# Altium schematic symbol library SS54-HF.SchLib: 1 symbol
Pins are listed as number, name and electrical type; pins without a type are passive.

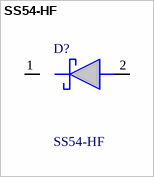
[diagram p0: symbol SS54-HF]

## SS54-HF
designator D?
DIODE SCHOTTKY 5A 40V SMA; Manufacturer_Name: Comchip Technology; Geometry.Height: 2.2mm; Mouser Part Number: 750-SS54-HF; Mouser Price/Stock: https://www.mouser.co.uk/ProductDetail/Comchip-Technology/SS54-HF?qs=GBLSl2AkiruU27AsKMcmrg%3D%3D; Manufacturer_Part_Number: SS54-HF; Datasheet Link: https://componentsearchengine.com/Datasheets/1/SS54-HF.pdf
footprint DIOM5025X220N
pins: 1 K, 2 A